# Altium footprint library TH Electrolytic Aluminum capacitors.PcbLib: 35 footprints (part 3 of 3)
Each footprint in its own frame and in the unit in brackets; x right, y up, seen from the top. Pads: shape width x height; smd on the part's side, far side on the other; paste and mask are expansions set on the pad; w line width, h text height; cw(c..) or ccw(c..) is an arc to the next point about the centre after c.
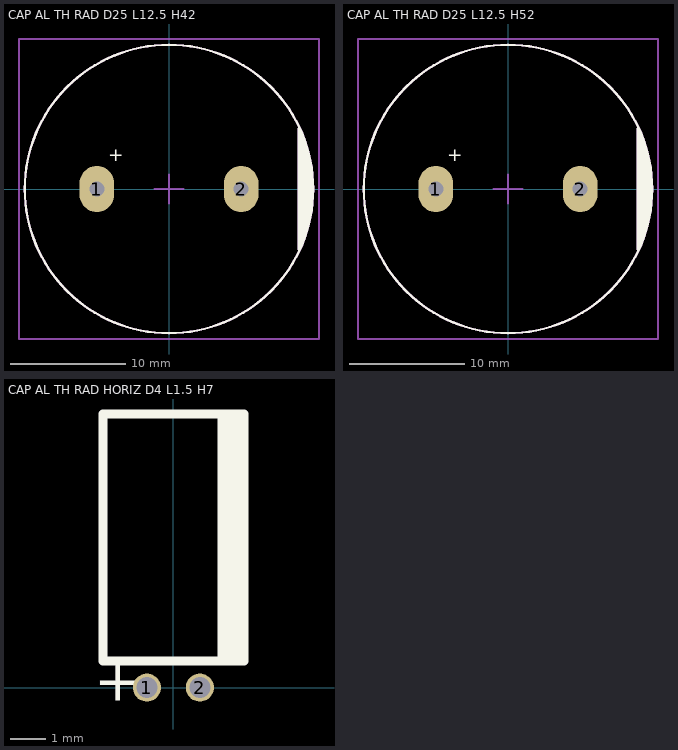
[diagram p2: the footprints below, top view; thin cyan lines are the x and y axes]

## CAP AL TH RAD D25 L12.5 H42 [mm] "16MM Diameter, 7.5MM Lead Spacing Aluminium Capacitor"
height 42
pads (2):
  oval 3x4 hole 1.3: 1(-6.25,0) 2(6.25,0)
Top Overlay:
  circle w0.2: c0,0 r12.5
  region: 11.25,-5.25 11.25,5.375 12,3.5 12.25,2.5 12.5,1 12.5,0 12.5,-1 12,-3.5
  lines w0.2: 11.25,-5.25 11.25,5.25
  text "+" at -5.25,2 h2
Mechanical 13:
  circle w0.2: c0,0 r12.5
  lines w0.2: 11.25,-5.25 11.25,5.25
Mechanical 15:
  lines w0.2: -1.25,0 1.25,0 ; 0,-1.25 0,1.25 ; -13,-13 -13,13 13,13 13,-13 -13,-13
3D body "CAP ALTH D-25MM L-12.5MM H-42MM.STEP": height 42.2, standoff -3, extent -12.5,-12.491 12.5,12.492

## CAP AL TH RAD D25 L12.5 H52 [mm] "16MM Diameter, 7.5MM Lead Spacing Aluminium Capacitor"
height 52
pads (2):
  oval 3x4 hole 1.3: 1(-6.25,0) 2(6.25,0)
Top Overlay:
  circle w0.2: c0,0 r12.5
  region: 11.25,-5.25 11.25,5.375 12,3.5 12.25,2.5 12.5,1 12.5,0 12.5,-1 12,-3.5
  lines w0.2: 11.25,-5.25 11.25,5.25
  text "+" at -5.25,2 h2
Mechanical 13:
  circle w0.2: c0,0 r12.5
  lines w0.2: 11.25,-5.25 11.25,5.25
Mechanical 15:
  lines w0.2: -1.25,0 1.25,0 ; 0,-1.25 0,1.25 ; -13,-13 13,-13 13,13 -13,13 -13,-13
3D body "CAP ALTH D-25MM L-12.5MM H-52MM.STEP": height 52.2, standoff -3, extent -12.5,-12.481 12.5,12.481

## CAP AL TH RAD HORIZ D4 L1.5 H7 [mm] "4MM Diameter, 1.5MM Lead Spacing Aluminium Capacitor ( Horizontal )"
height 4
pads (2):
  round 0.8 hole 0.6: 1(-0.75,0) 2(0.75,0)
Top Overlay:
  rectangle: 1.25,0.75 2,7.75
  lines w0.254: 2,7.75 -2,7.75 -2,0.75 2,0.75 2,7.75 ; 2,7.75 2,7.75
  text "+" at -2.25,-0.75 h2
3D body: height 2.23, standoff 1.78, extent -0.975,-0.222 -0.526,0.222
3D body: height 2.22, standoff 1.78, extent -0.974,0 -0.526,0.75
3D body: height 2, standoff -3, extent -0.974,-0.225 -0.526,0.225
3D body: height 2, standoff -3, extent 0.527,-0.224 0.975,0.225
3D body: height 4, standoff 0, extent -2,0.75 2,7.75
3D body: height 2.22, standoff 1.78, extent 0.527,0 0.975,0.75
3D body: height 2.23, standoff 1.78, extent 0.526,-0.221 0.975,0.222